# Altium schematic symbol library RELAY.SchLib: 6 symbols
Pins are listed as number, name and electrical type; pins without a type are passive.

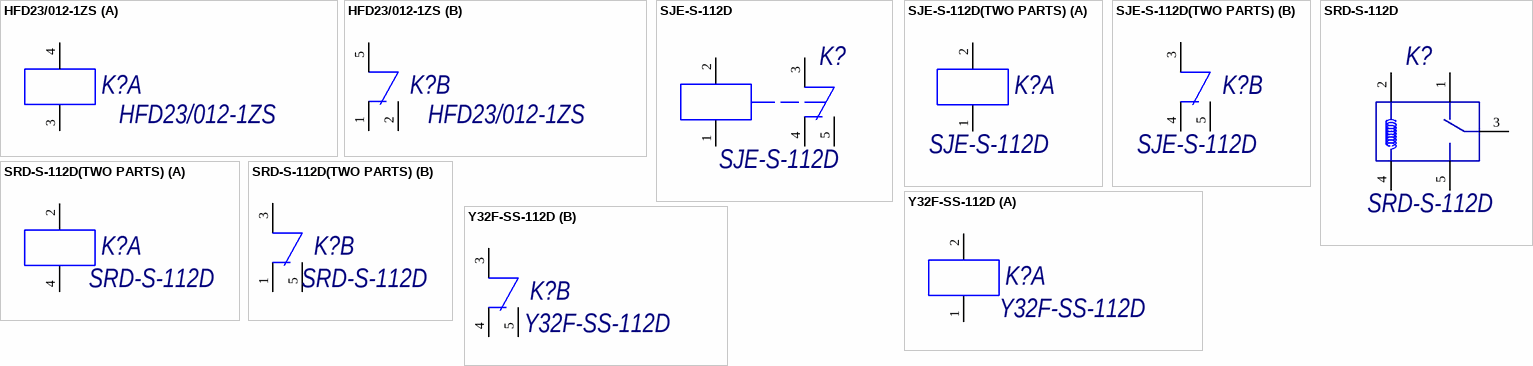
[diagram p0: symbols HFD23/012-1ZS to Y32F-SS-112D]

## HFD23/012-1ZS
designator K?
Реле промежуточное; ComponentDescription: Реле промежуточное, HFD23/012-1ZS; ComponentType: Реле промежуточное
footprint HFD23/Z (SUBMINIATURE INTERMEDIATE POWER RELAY); pin to pad 5>5+6
part A pins: 3, 4
part B pins: 1, 2, 5
1 alternate drawing of the same symbol

## SJE-S-112D
designator K?
Реле промежуточное; ComponentDescription: Реле промежуточное, SJE-S-112D; ComponentType: Реле промежуточное
footprint SJE-S-112D
pins: 1, 2, 3, 4, 5
2 alternate drawings of the same symbol

## SJE-S-112D(TWO PARTS)
designator K?, comment SJE-S-112D
Реле промежуточное; ComponentDescription: Реле промежуточное, SJE-S-112D; ComponentType: Реле промежуточное
footprint SJE-S-112D
part A pins: 1, 2
part B pins: 3, 4, 5
1 alternate drawing of the same symbol

## SRD-S-112D
designator K?
Реле промежуточное; ComponentDescription: Реле промежуточное, SRD-S-112D; ComponentType: Реле промежуточное
footprint SRD-S-112D
pins: 1, 2, 3, 4, 5
1 alternate drawing of the same symbol

## SRD-S-112D(TWO PARTS)
designator K?, comment SRD-S-112D
Реле промежуточное; ComponentDescription: Реле промежуточное, SRD-S-112D; ComponentType: Реле промежуточное
footprint SRD-S-112D
part A pins: 2, 4
part B pins: 1, 3, 5
1 alternate drawing of the same symbol

## Y32F-SS-112D
designator K?
Реле промежуточное; ComponentDescription: Реле промежуточное, Y32F-SS-112D; ComponentType: Реле промежуточное
footprint Y32F-SS-112D (SUBMINIATURE INTERMEDIATE POWER RELAY)
part A pins: 1, 2
part B pins: 3, 4, 5
1 alternate drawing of the same symbol